# EAGLE library part JST-6-2.5 (library UNKNOWN-2024)
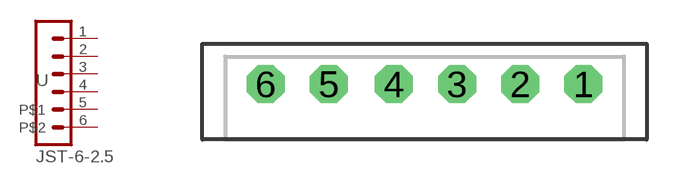
[diagram p25: symbol with the pads of JST-6-2.5; footprint JST-6-2.5]

Designator prefix -

## JST-6-2.5  [JST-6-2.5]
1  4  pas
2  3  pas
3  2  pas
4  1  pas
5  P$1
6  P$2

## Footprint JST-6-2.5 (pad centres in mm)
JST PH series header 2.00mm pitch disconnectable crimp style connectors, through-hole vertical (top entry type), 2 pins
drill 1 pad 1.5 octagon: 1 6.29,0; 2 3.79,0; 3 1.29,0; 4 -1.21,0; 5 -3.79,0; 6 -6.29,0